# Altium schematic symbol library myComponents.SchLib: 11 symbols
Pins are listed as number, name and electrical type; pins without a type are passive.

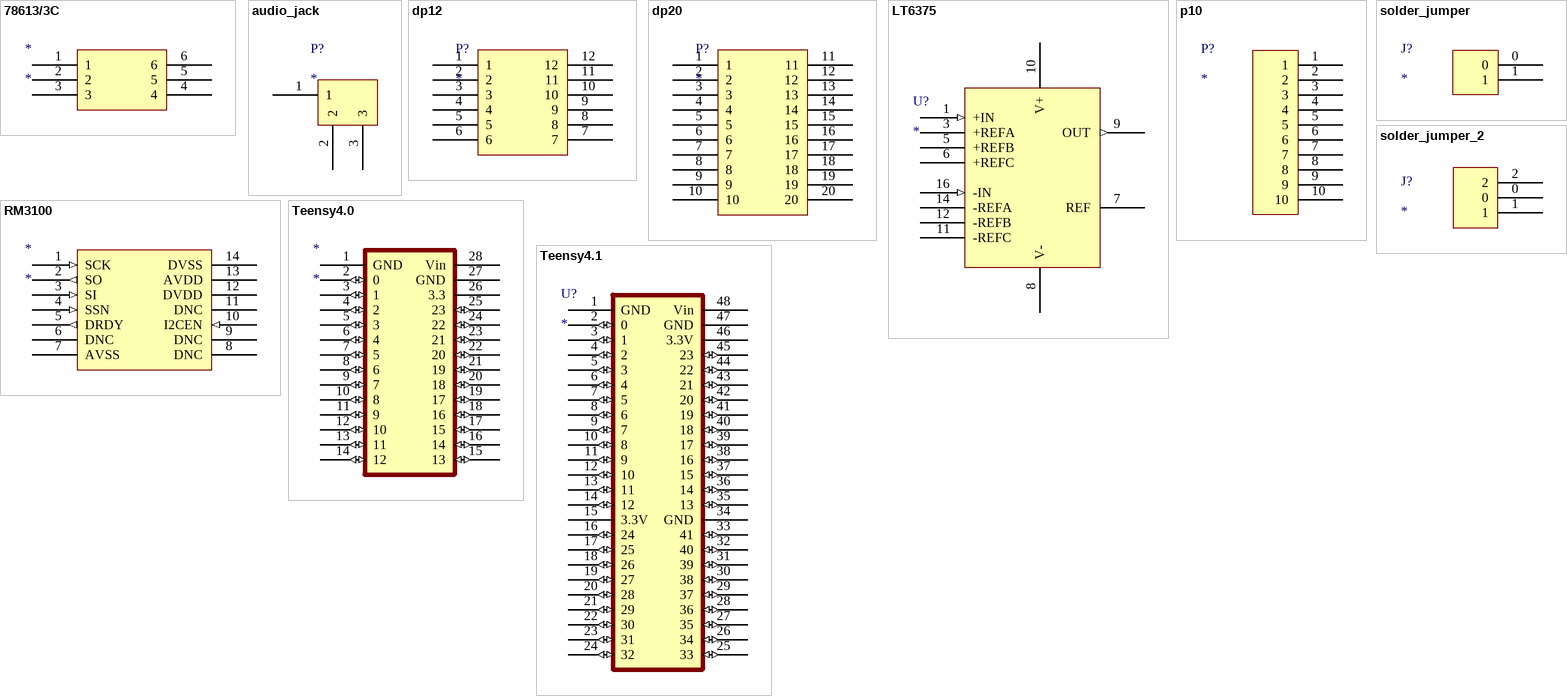
[diagram p0: symbols 78613/3C to Teensy4.1]

## 78613/3C
designator *
footprint DIP6-400
pins: 1, 2, 3, 4, 5, 6

## audio_jack
designator P?
pins: 1, 2, 3

## dp12
designator P?
pins: 1, 2, 3, 4, 5, 6, 7, 8, 9, 10, 11, 12

## dp20
designator P?
pins: 1, 2, 3, 4, 5, 6, 7, 8, 9, 10, 11, 12, 13, 14, 15, 16, 17, 18, 19, 20

## LT6375
designator U?
pins: 1 +IN (in), 3 +REFA, 5 +REFB, 6 +REFC, 7 REF, 8 V- (power), 9 OUT (out), 10 V+ (power), 11 -REFC, 12 -REFB, 14 -REFA, 16 -IN (in)

## p10
designator P?
pins: 1, 2, 3, 4, 5, 6, 7, 8, 9, 10

## RM3100
designator *
footprint DIP14-900
pins: 1 SCK (in), 2 SO (out), 3 SI (in), 4 SSN (in), 5 DRDY (out), 6 DNC, 7 AVSS (power), 8 DNC, 9 DNC, 10 I2CEN (in), 11 DNC, 12 DVDD (power), 13 AVDD (power), 14 DVSS (power)

## solder_jumper
designator J?
pins: 0, 1

## solder_jumper_2
designator J?
pins: 0, 1, 2

## Teensy4.0
designator *
footprint DIP28-600
pins: 1 GND (power), 2 0 (io), 3 1 (io), 4 2 (io), 5 3 (io), 6 4 (io), 7 5 (io), 8 6 (io), 9 7 (io), 10 8 (io), 11 9 (io), 12 10 (io), 13 11 (io), 14 12 (io), 15 13 (io), 16 14 (io), 17 15 (io), 18 16 (io), 19 17 (io), 20 18 (io), 21 19 (io), 22 20 (io), 23 21 (io), 24 22 (io), 25 23 (io), 26 3.3 (power), 27 GND (power), 28 Vin (power)

## Teensy4.1
designator U?
pins: 1 GND (power), 2 0 (io), 3 1 (io), 4 2 (io), 5 3 (io), 6 4 (io), 7 5 (io), 8 6 (io), 9 7 (io), 10 8 (io), 11 9 (io), 12 10 (io), 13 11 (io), 14 12 (io), 15 3.3V (power), 16 24 (io), 17 25 (io), 18 26 (io), 19 27 (io), 20 28 (io), 21 29 (io), 22 30 (io), 23 31 (io), 24 32 (io), 25 33 (io), 26 34 (io), 27 35 (io), 28 36 (io), 29 37 (io), 30 38 (io), 31 39 (io), 32 40 (io), 33 41 (io), 34 GND (power), 35 13 (io), 36 14 (io), 37 15 (io), 38 16 (io), 39 17 (io), 40 18 (io), 41 19 (io), 42 20 (io), 43 21 (io), 44 22 (io), 45 23 (io), 46 3.3V (power), 47 GND (power), 48 Vin (power)